# EAGLE library part CON_2X3_254MM (library ChristiansCustom)
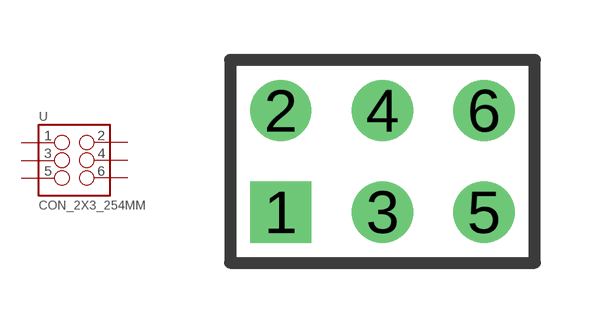
[diagram p0: symbol with the pads of CON_2X3_254MM; footprint CON_2X3_254MM]

Designator prefix -

## CON_2X3_254MM  [CON_2X3_254MM]
1  1
2  2
3  3
4  4
5  5
6  6

## Footprint CON_2X3_254MM (pad centres in mm)
drill 1.02 square: 1 -2.54,-1.27
drill 1.02: 2 -2.54,1.27; 3 0,-1.27; 4 0,1.27; 5 2.54,-1.27; 6 2.54,1.27